# EAGLE library part LM5114 (library NA-2025)
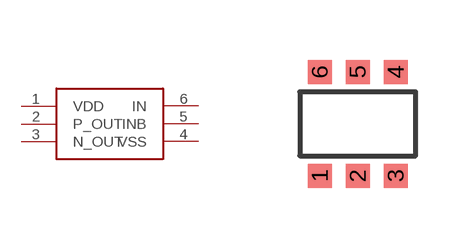
[diagram p51: symbol with the pads of SOT23-6; footprint SOT23-6]

Designator prefix -

## LM5114  [SOT23-6]
1  VDD
2  P_OUT
3  N_OUT
4  VSS
5  INB
6  IN

## Footprint SOT23-6 (pad centres in mm)
smd 0.6 x 0.6: 1 -0.95,-1.3; 2 0,-1.3; 3 0.95,-1.3; 4 0.95,1.3; 5 0,1.3; 6 -0.95,1.3